# EAGLE library part #EABC80 (library E88CC)
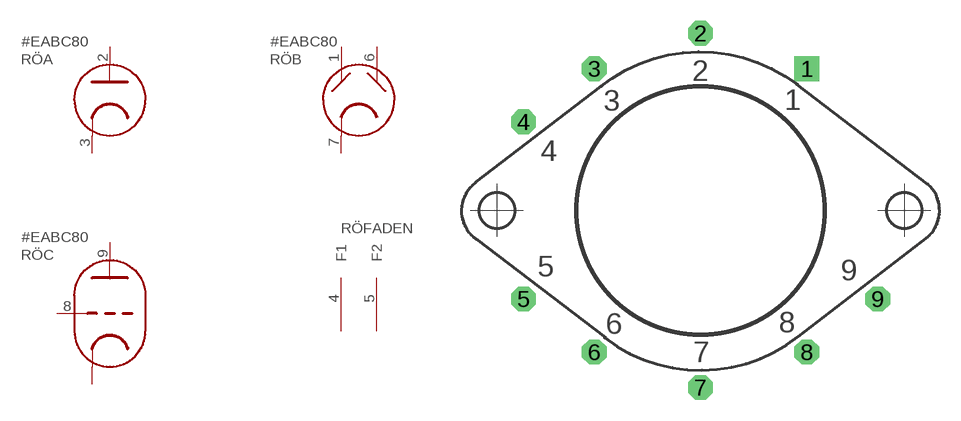
[diagram p13: symbol with the pads of NOVAL_G; footprint NOVAL_G]

Designator prefix RÖ; gates A=DIODE B=DUODIODE C=TRIODE FADEN=FADEN

## #EABC80  [NOVAL_G]
1  B:A1  out
2  A:A  out
3  A:K
4  FADEN:F1  pwr
5  FADEN:F2  pwr
6  B:A2  out
7  B:K
8  C:G  in
9  C:A  out

## Footprint NOVAL_G (pad centres in mm)
drill 1 pad 1.778 square: 1 7.62,10.16
drill 1 pad 1.778 octagon: 2 0,12.7; 3 -7.62,10.16; 4 -12.7,6.35; 5 -12.7,-6.35; 6 -7.62,-10.16; 7 0,-12.7; 8 7.62,-10.16; 9 12.7,-6.35